# Altium footprint library SON5P65_120X160X50L25X20T85X65N.PcbLib: 1 footprints
Each footprint in its own frame and in the unit in brackets; x right, y up, seen from the top. Pads: shape width x height; smd on the part's side, far side on the other; paste and mask are expansions set on the pad; w line width, h text height; cw(c..) or ccw(c..) is an arc to the next point about the centre after c.
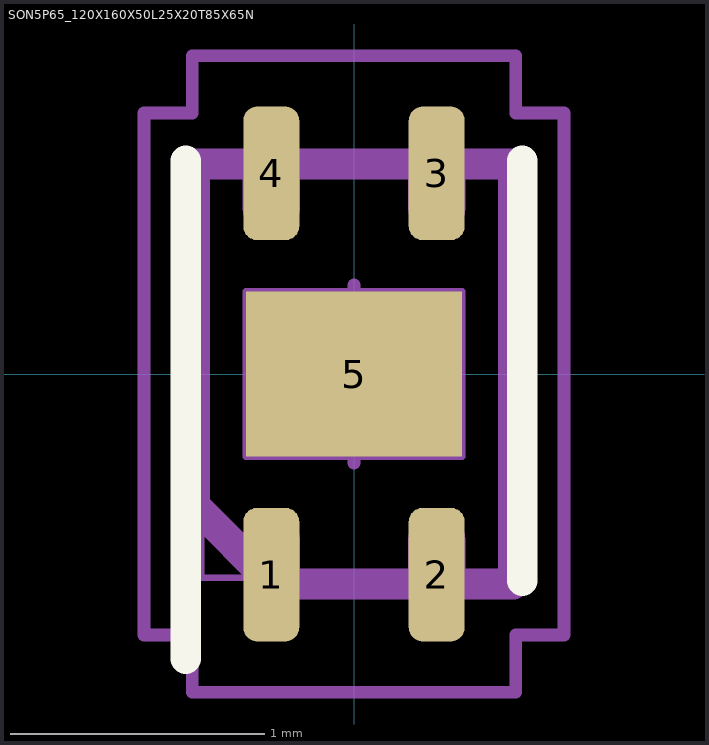
[diagram p0: the footprint, top view; thin cyan lines are the x and y axes]

## SON5P65_120X160X50L25X20T85X65N [mm] "Small Outline No-Lead (SON) with Thermal Tab, 0.65 mm pitch; 4 pin, 1.20 mm L X 1.60 mm W X 0.53 mm H Body"
height 0.53
pads (5):
  rrect50% 0.22x0.525 smd: 1(-0.325,-0.788) 2(0.325,-0.788) 3(0.325,0.788) 4(-0.325,0.788)
  rect 0.85x0.65 smd paste-0.095: 5(0,0)
Top Overlay:
  lines w0.12: -0.66,-1.118 -0.66,0.837 ; 0.66,-0.813 0.66,0.837
Mechanical 3:
  lines w0.12: -0.625,-0.518 -0.625,0.825 0.625,0.825 0.625,-0.825 -0.318,-0.825 -0.625,-0.518
Mechanical 5:
  lines w0.025: -0.6,-0.8 0.6,-0.8 0.6,0.8 -0.6,0.8 -0.6,-0.8 ; -0.425,-0.801 -0.225,-0.801 -0.225,-0.651 ccw(c-0.325,-0.651) -0.425,-0.651 -0.425,-0.801 ; -0.425,-0.325 -0.425,0.325 0.425,0.325 0.425,-0.325 -0.425,-0.325 ; -0.425,0.651 ccw(c-0.325,0.651) -0.225,0.651 -0.225,0.801 -0.425,0.801 -0.425,0.651 ; 0.225,-0.801 0.425,-0.801 0.425,-0.651 ccw(c0.325,-0.651) 0.225,-0.651 0.225,-0.801 ; 0.225,0.651 ccw(c0.325,0.651) 0.425,0.651 0.425,0.801 0.225,0.801 0.225,0.651
Mechanical 7:
  circle w0.05: c0,0 r0.25
  lines w0.05: -0.35,0 0.35,0 ; 0,-0.35 0,0.35 ; -0.825,-1.025 -0.635,-1.025 -0.635,-1.25 0.635,-1.25 0.635,-1.025 0.825,-1.025 0.825,1.025 0.635,1.025 0.635,1.25 -0.635,1.25 -0.635,1.025 -0.825,1.025 -0.825,-1.025
Mechanical 9:
  text "'.Designator'" at -5.588,-0.169 h1.02
3D body "SON5P65_120X160X50L25X20T85X65.STEP": height 0.53, standoff 0, extent -0.6,-0.85 0.6,0.85
3D body: height 0.53, standoff 0, extent -0.825,-1.25 0.825,1.25